# EAGLE library part TS30011 (library DigitalIC)
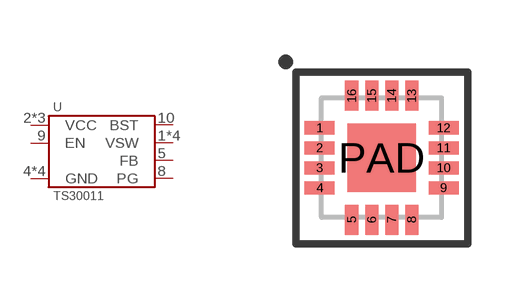
[diagram p1: symbol with the pads of VFQFN-16-3X3; footprint VFQFN-16-3X3]

Designator prefix U

## TS30011-M033QFNR  [VFQFN-16-3X3]
1  VSW
2  VCC
3  VCC
4  GND
5  FB
8  PG
9  EN
10  BST
11  VCC
12  VSW
13  VSW
14  GND
15  GND
16  VSW
PAD  GND

## Footprint VFQFN-16-3X3 (pad centres in mm)
smd 0.75 x 0.325: 1 -1.55,0.75; 2 -1.55,0.25; 3 -1.55,-0.25; 4 -1.55,-0.75; 9 1.55,-0.75; 10 1.55,-0.25; 11 1.55,0.25; 12 1.55,0.75
smd 0.325 x 0.75: 5 -0.75,-1.55; 6 -0.25,-1.55; 7 0.25,-1.55; 8 0.75,-1.55; 13 0.75,1.55; 14 0.25,1.55; 15 -0.25,1.55; 16 -0.75,1.55
smd 1.7 x 1.7: PAD 0,0